# Altium footprint library ESP32_WROOM_MODULE.PcbLib: 1 footprints
Each footprint in its own frame and in the unit in brackets; x right, y up, seen from the top. Pads: shape width x height; smd on the part's side, far side on the other; paste and mask are expansions set on the pad; w line width, h text height; cw(c..) or ccw(c..) is an arc to the next point about the centre after c.
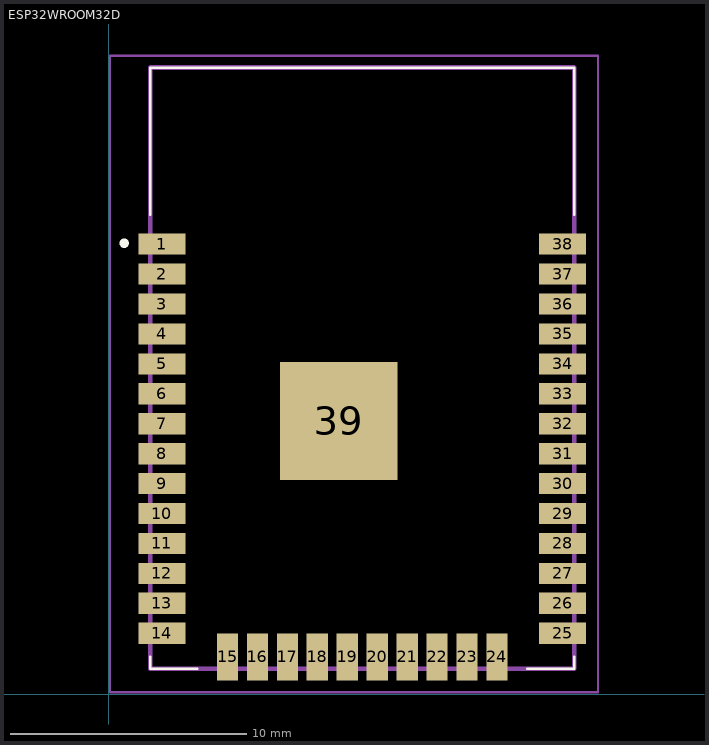
[diagram p0: the footprint, top view; thin cyan lines are the x and y axes]

## ESP32WROOM32D [mm]
pads (39):
  rect 2x0.9 smd: 1(2.264,19.099) 2(2.264,17.829) 3(2.264,16.559) 4(2.264,15.289) 5(2.264,14.019) 6(2.264,12.749) 7(2.264,11.479) 8(2.264,10.209) 9(2.264,8.939) 10(2.264,7.669) 11(2.264,6.399) 12(2.264,5.129) 13(2.264,3.859) 14(2.264,2.589) 25(19.264,2.589) 26(19.264,3.859) 27(19.264,5.129) 28(19.264,6.399) 29(19.264,7.669) 30(19.264,8.939) 31(19.264,10.209) 32(19.264,11.479) 33(19.264,12.749) 34(19.264,14.019) 35(19.264,15.289) 36(19.264,16.559) 37(19.264,17.829) 38(19.264,19.099)
  rect 0.9x2 smd: 15(5.049,1.589) 16(6.319,1.589) 17(7.589,1.589) 18(8.859,1.589) 19(10.129,1.589) 20(11.399,1.589) 21(12.669,1.589) 22(13.939,1.589) 23(15.209,1.589) 24(16.479,1.589)
  rect 5x5 smd: 39(9.764,11.599)
Top Overlay:
  lines w0.1: 1.764,1.589 1.764,1.089 3.764,1.089 ; 1.764,20.339 1.764,26.589 19.764,26.589 19.764,20.339 ; 17.764,1.089 19.764,1.089 19.764,1.589
  lines w0.2: 0.664,19.039 cw(c0.664,19.139) 0.664,19.239 cw(c0.664,19.139) 0.664,19.039
Mechanical 13:
  lines w0.2: 1.764,1.089 1.764,26.589 19.764,26.589 19.764,1.089 1.764,1.089
Mechanical 15:
  lines w0.1: 0.064,0.089 0.064,27.089 20.764,27.089 20.764,0.089 0.064,0.089